# Altium schematic symbol library MJ1-2503A.SchLib: 1 symbol
Pins are listed as number, name and electrical type; pins without a type are passive.

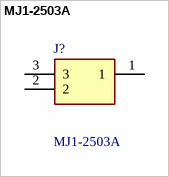
[diagram p0: symbol MJ1-2503A]

## MJ1-2503A
designator J?
AUDIOJACK, 2.5MM, RT, MONO, TH; Manufacturer_Name: CUI Devices; Geometry.Height: 5mm; Mouser Part Number: 490-MJ1-2503A; Mouser Price/Stock: https://www.mouser.co.uk/ProductDetail/CUI-Devices/MJ1-2503A?qs=WyjlAZoYn53Vmgniye7ciw%3D%3D; Manufacturer_Part_Number: MJ1-2503A; Datasheet Link: https://www.cui.com/product/resource/mj1-2503a.pdf
footprint MJ12503A
pins: 1, 2, 3